# Altium schematic symbol library UPC4081C.SchLib: 1 symbol
Pins are listed as number, name and electrical type; pins without a type are passive.

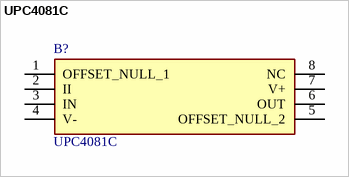
[diagram p0: symbol UPC4081C]

## UPC4081C
designator B?
UPC4081C Renesas Electronics,, Op Amp; Geometry.Height: 5.08mm; Manufacturer_Name: Renesas Electronics; Manufacturer_Part_Number: UPC4081C; Mouser Part Number: *; Mouser Price/Stock: *; Arrow Part Number: *; Arrow Price/Stock: *; Datasheet Link: https://www.renesas.com/us/en/document/dst/upc4081-data-sheet?language=en&r=495896
footprint DIP762W60P254L1016H508Q8N
pins: 1 OFFSET_NULL_1, 2 II, 3 IN, 4 V-, 5 OFFSET_NULL_2, 6 OUT, 7 V+, 8 NC